# EAGLE library part BGS2 (library GSM)
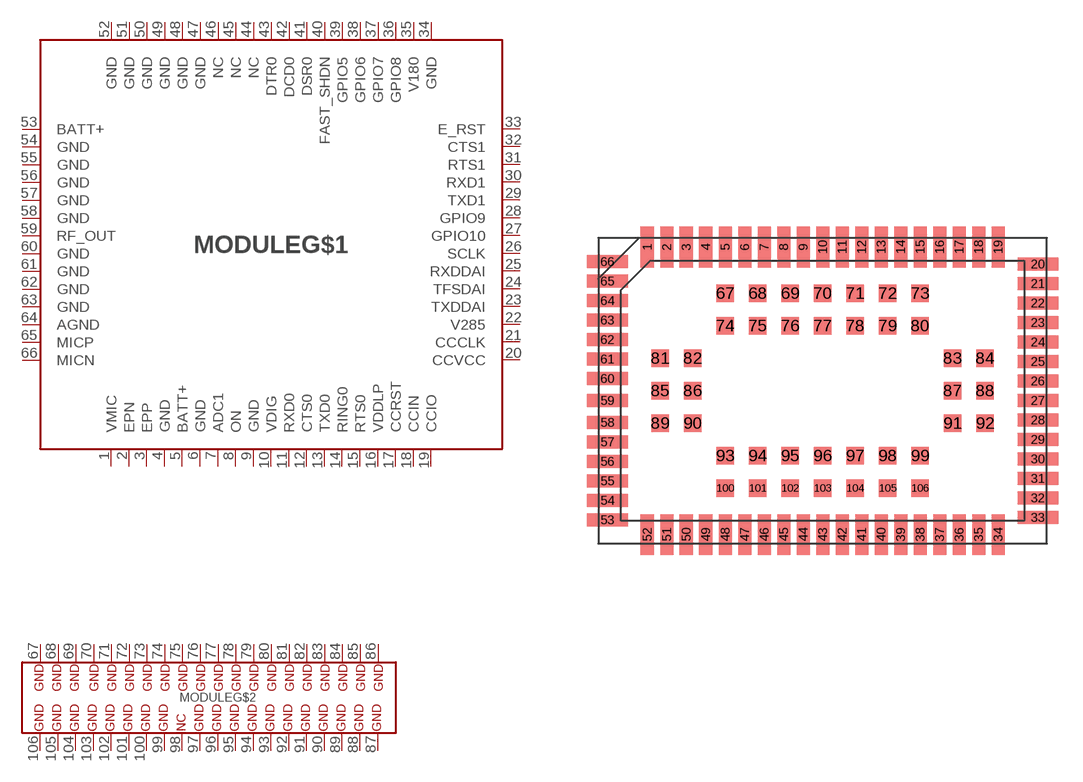
[diagram p7: symbol with the pads of BGS2; footprint BGS2]

Designator prefix MODULE; gates G$1=BGS2 G$2=BGS2_1

## BGS2  [BGS2]
1  G$1:VMIC
2  G$1:EPN
3  G$1:EPP
4  G$1:GND
5  G$1:BATT+
6  G$1:GND
7  G$1:ADC1
8  G$1:ON
9  G$1:GND
10  G$1:VDIG
11  G$1:RXD0
12  G$1:CTS0
13  G$1:TXD0
14  G$1:RING0
15  G$1:RTS0
16  G$1:VDDLP
17  G$1:CCRST
18  G$1:CCIN
19  G$1:CCIO
20  G$1:CCVCC
21  G$1:CCCLK
22  G$1:V285
23  G$1:TXDDAI
24  G$1:TFSDAI
25  G$1:RXDDAI
26  G$1:SCLK
27  G$1:GPIO10
28  G$1:GPIO9
29  G$1:TXD1
30  G$1:RXD1
31  G$1:RTS1
32  G$1:CTS1
33  G$1:E_RST
34  G$1:GND
35  G$1:V180
36  G$1:GPIO8
37  G$1:GPIO7
38  G$1:GPIO6
39  G$1:GPIO5
40  G$1:FAST_SHDN
41  G$1:DSR0
42  G$1:DCD0
43  G$1:DTR0
44  G$1:NC
45  G$1:NC
46  G$1:NC
47  G$1:GND
48  G$1:GND
49  G$1:GND
50  G$1:GND
51  G$1:GND
52  G$1:GND
53  G$1:BATT+
54  G$1:GND
55  G$1:GND
56  G$1:GND
57  G$1:GND
58  G$1:GND
59  G$1:RF_OUT
60  G$1:GND
61  G$1:GND
62  G$1:GND
63  G$1:GND
64  G$1:AGND
65  G$1:MICP
66  G$1:MICN
67  G$2:P$1
68  G$2:P$2
69  G$2:P$3
70  G$2:P$4
71  G$2:P$5
72  G$2:P$6
73  G$2:P$7
74  G$2:P$8
75  G$2:P$9
76  G$2:P$10
77  G$2:P$11
78  G$2:P$12
79  G$2:P$13
80  G$2:P$14
81  G$2:P$15
82  G$2:P$16
83  G$2:P$17
84  G$2:P$18
85  G$2:P$19
86  G$2:P$20
87  G$2:P$21
88  G$2:P$22
89  G$2:P$23
90  G$2:P$24
91  G$2:P$25
92  G$2:P$26
93  G$2:P$27
94  G$2:P$28
95  G$2:P$29
96  G$2:P$30
97  G$2:P$31
98  G$2:P$32
99  G$2:P$33
100  G$2:P$34
101  G$2:P$35
102  G$2:P$36
103  G$2:P$37
104  G$2:P$38
105  G$2:P$39
106  G$2:P$40

## Footprint BGS2 (pad centres in mm)
smd 0.8 x 2.5: 1 -10.8,8.85; 2 -9.6,8.85; 3 -8.4,8.85; 4 -7.2,8.85; 5 -6,8.85; 6 -4.8,8.85; 7 -3.6,8.85; 8 -2.4,8.85; 9 -1.2,8.85; 10 0,8.85; 11 1.2,8.85; 12 2.4,8.85; 13 3.6,8.85; 14 4.8,8.85; 15 6,8.85; 16 7.2,8.85; 17 8.4,8.85; 18 9.6,8.85; 19 10.8,8.85; 34 10.8,-8.85; 35 9.6,-8.85; 36 8.4,-8.85; 37 7.2,-8.85; 38 6,-8.85; 39 4.8,-8.85; 40 3.6,-8.85; 41 2.4,-8.85; 42 1.2,-8.85; 43 0,-8.85; 44 -1.2,-8.85; 45 -2.4,-8.85; 46 -3.6,-8.85; 47 -4.8,-8.85; 48 -6,-8.85; 49 -7.2,-8.85; 50 -8.4,-8.85; 51 -9.6,-8.85; 52 -10.8,-8.85
smd 2.5 x 0.8: 20 13.25,7.8; 21 13.25,6.6; 22 13.25,5.4; 23 13.25,4.2; 24 13.25,3; 25 13.25,1.8; 26 13.25,0.6; 27 13.25,-0.6; 28 13.25,-1.8; 29 13.25,-3; 30 13.25,-4.2; 31 13.25,-5.4; 32 13.25,-6.6; 33 13.25,-7.8; 53 -13.25,-7.95; 54 -13.25,-6.75; 55 -13.25,-5.55; 56 -13.25,-4.35; 57 -13.25,-3.15; 58 -13.25,-1.95; 59 -13.25,-0.6; 60 -13.25,0.75; 61 -13.25,1.95; 62 -13.25,3.15; 63 -13.25,4.35; 64 -13.25,5.55; 65 -13.25,6.75; 66 -13.25,7.95
smd 1.1 x 1.1: 67 -6,6; 68 -4,6; 69 -2,6; 70 0,6; 71 2,6; 72 4,6; 73 6,6; 74 -6,4; 75 -4,4; 76 -2,4; 77 0,4; 78 2,4; 79 4,4; 80 6,4; 81 -10,2; 82 -8,2; 83 8,2; 84 10,2; 85 -10,0; 86 -8,0; 87 8,0; 88 10,0; 89 -10,-2; 90 -8,-2; 91 8,-2; 92 10,-2; 93 -6,-4; 94 -4,-4; 95 -2,-4; 96 0,-4; 97 2,-4; 98 4,-4; 99 6,-4; 100 -6,-6; 101 -4,-6; 102 -2,-6; 103 0,-6; 104 2,-6; 105 4,-6; 106 6,-6